# Altium schematic symbol library ArduinoPower.SchLib: 1 symbol
Pins are listed as number, name and electrical type; pins without a type are passive.

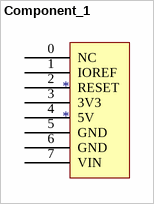
[diagram p0: symbol Component_1]

## Component_1
designator *
footprint Model Name (Footprint not found)
pins: 0 NC, 1 IOREF, 2 RESET, 3 3V3, 4 5V, 5 GND, 6 GND, 7 VIN